# EAGLE library part AD5666 (library analog_devices)
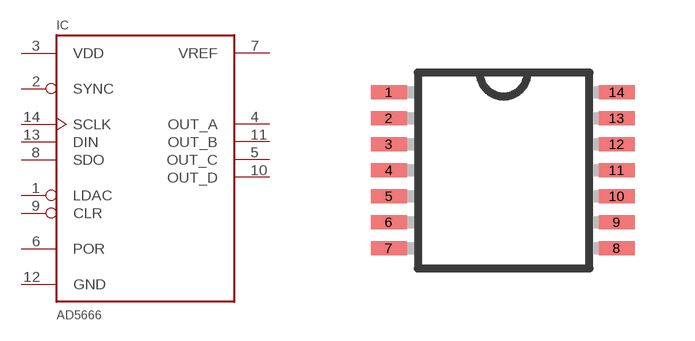
[diagram p2: symbol with the pads of TSSOP14; footprint TSSOP14]

Designator prefix IC

## AD5666  [TSSOP14]
1  LDAC  in
2  SYNC  in
3  VDD  pwr
4  OUT_A  out
5  OUT_C  out
6  POR  in
7  VREF
8  SDO  out
9  CLR  in
10  OUT_D  out
11  OUT_B  out
12  GND  pwr
13  DIN  in
14  SCLK  in

## Footprint TSSOP14 (pad centres in mm)
14-Lead Thin Shrink Small Outline Package [TSSOP] Source: Analog Devices .. 780914713ADD8704_0.pdf
smd 0.9 x 0.35: 1 -2.875,1.95; 2 -2.875,1.3; 3 -2.875,0.65; 4 -2.875,0; 5 -2.875,-0.65; 6 -2.875,-1.3; 7 -2.875,-1.95; 8 2.825,-1.95; 9 2.825,-1.3; 10 2.825,-0.65; 11 2.825,0; 12 2.825,0.65; 13 2.825,1.3; 14 2.825,1.95